# EAGLE library part DCPOWERCONV_R2 (library glowmouse_custom)
Unbranded 9V / 12V/ 19V to 3.3V/ 5V DC-DC Step Down Buck Power Supply Module 3A
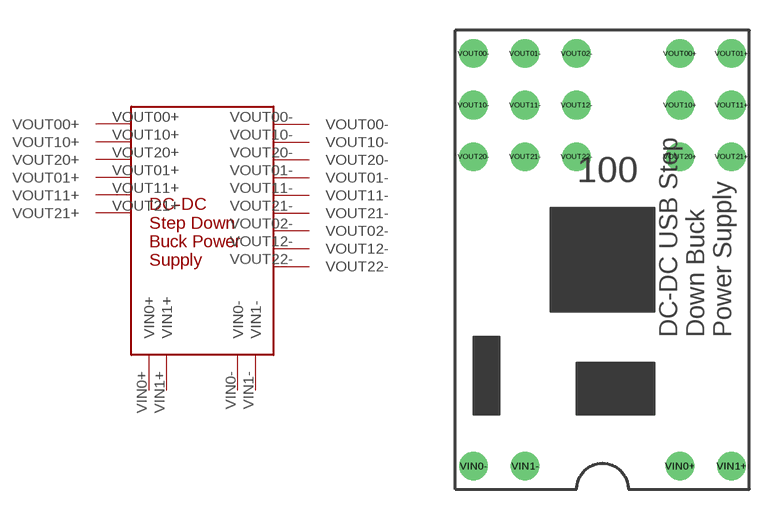
[diagram p1: symbol with the pads of DCPOWERCONV_R2; footprint DCPOWERCONV_R2]

Designator prefix -

## DCPOWERCONV_R2  [DCPOWERCONV_R2]
VIN0+  VIN0+
VIN0-  VIN0-
VIN1+  VIN1+
VIN1-  VIN1-
VOUT00+  VOUT00+
VOUT00-  VOUT00-
VOUT01+  VOUT01+
VOUT01-  VOUT01-
VOUT02-  VOUT02-
VOUT10+  VOUT10+
VOUT10-  VOUT10-
VOUT11+  VOUT11+
VOUT11-  VOUT11-
VOUT12-  VOUT12-
VOUT20+  VOUT20+
VOUT20-  VOUT20-
VOUT21+  VOUT21+
VOUT21-  VOUT21-
VOUT22-  VOUT22-

## Footprint DCPOWERCONV_R2 (pad centres in mm)
drill 0.9: VIN0+ 3.81,-8.89; VIN0- -6.35,-8.89; VIN1+ 6.35,-8.89; VIN1- -3.81,-8.89; VOUT00+ 3.81,11.43; VOUT00- -6.35,11.43; VOUT01+ 6.35,11.43; VOUT01- -3.81,11.43; VOUT02- -1.27,11.43; VOUT10+ 3.81,8.89; VOUT10- -6.35,8.89; VOUT11+ 6.35,8.89; VOUT11- -3.81,8.89; VOUT12- -1.27,8.89; VOUT20+ 3.81,6.35; VOUT20- -6.35,6.35; VOUT21+ 6.35,6.35; VOUT21- -3.81,6.35; VOUT22- -1.27,6.35